# EAGLE library part ESP32DEVKITV1 (library IBe-9102-lib)
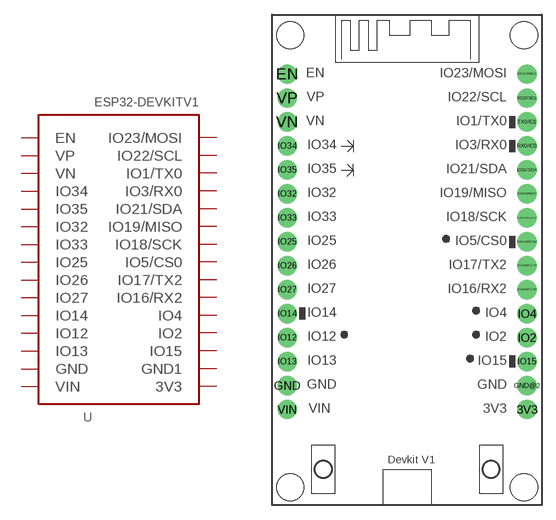
[diagram p5: symbol with the pads of ESP32-DEVKITV1; footprint ESP32-DEVKITV1]

Designator prefix -

## ESP32DEVKITV1  [ESP32-DEVKITV1]
3V3  3V3
EN  EN
GND  GND
GND@2  GND1
IO2  IO2
IO4  IO4
IO5/VSPI/CS0  IO5/CS0
IO12  IO12
IO13  IO13
IO14  IO14
IO15  IO15
IO16/UART-2-RX  IO16/RX2
IO17/UART-2-TX  IO17/TX2
IO18/VSPI/SCK/CLK  IO18/SCK
IO19/VSPI/MISO  IO19/MISO
IO21/SDA  IO21/SDA
IO22/SCL  IO22/SCL
IO23/VSPI/MOSI  IO23/MOSI
IO25  IO25
IO26  IO26
IO27  IO27
IO32  IO32
IO33  IO33
IO34  IO34
IO35  IO35
RX0/IO3  IO3/RX0
TX0/IO1  IO1/TX0
VIN  VIN
VN  VN
VP  VP

## Footprint ESP32-DEVKITV1 (pad centres in mm)
drill 1 pad 2.032: 3V3 15.24,-10.16; EN -10.16,25.4; GND -10.16,-7.62; GND@2 15.24,-7.62; IO2 15.24,-2.54; IO4 15.24,0; IO5/VSPI/CS0 15.24,7.62; IO12 -10.16,-2.54; IO13 -10.16,-5.08; IO14 -10.16,0; IO15 15.24,-5.08; IO16/UART-2-RX 15.24,2.54; IO17/UART-2-TX 15.24,5.08; IO18/VSPI/SCK/CLK 15.24,10.16; IO19/VSPI/MISO 15.24,12.7; IO21/SDA 15.24,15.24; IO22/SCL 15.24,22.86; IO23/VSPI/MOSI 15.24,25.4; IO25 -10.16,7.62; IO26 -10.16,5.08; IO27 -10.16,2.54; IO32 -10.16,12.7; IO33 -10.16,10.16; IO34 -10.16,17.78; IO35 -10.16,15.24; RX0/IO3 15.24,17.78; TX0/IO1 15.24,20.32; VIN -10.16,-10.16; VN -10.16,20.32; VP -10.16,22.86